# Altium integrated library arad.IntLib: 20 symbols
Pins are listed as number, name and electrical type; pins without a type are passive.

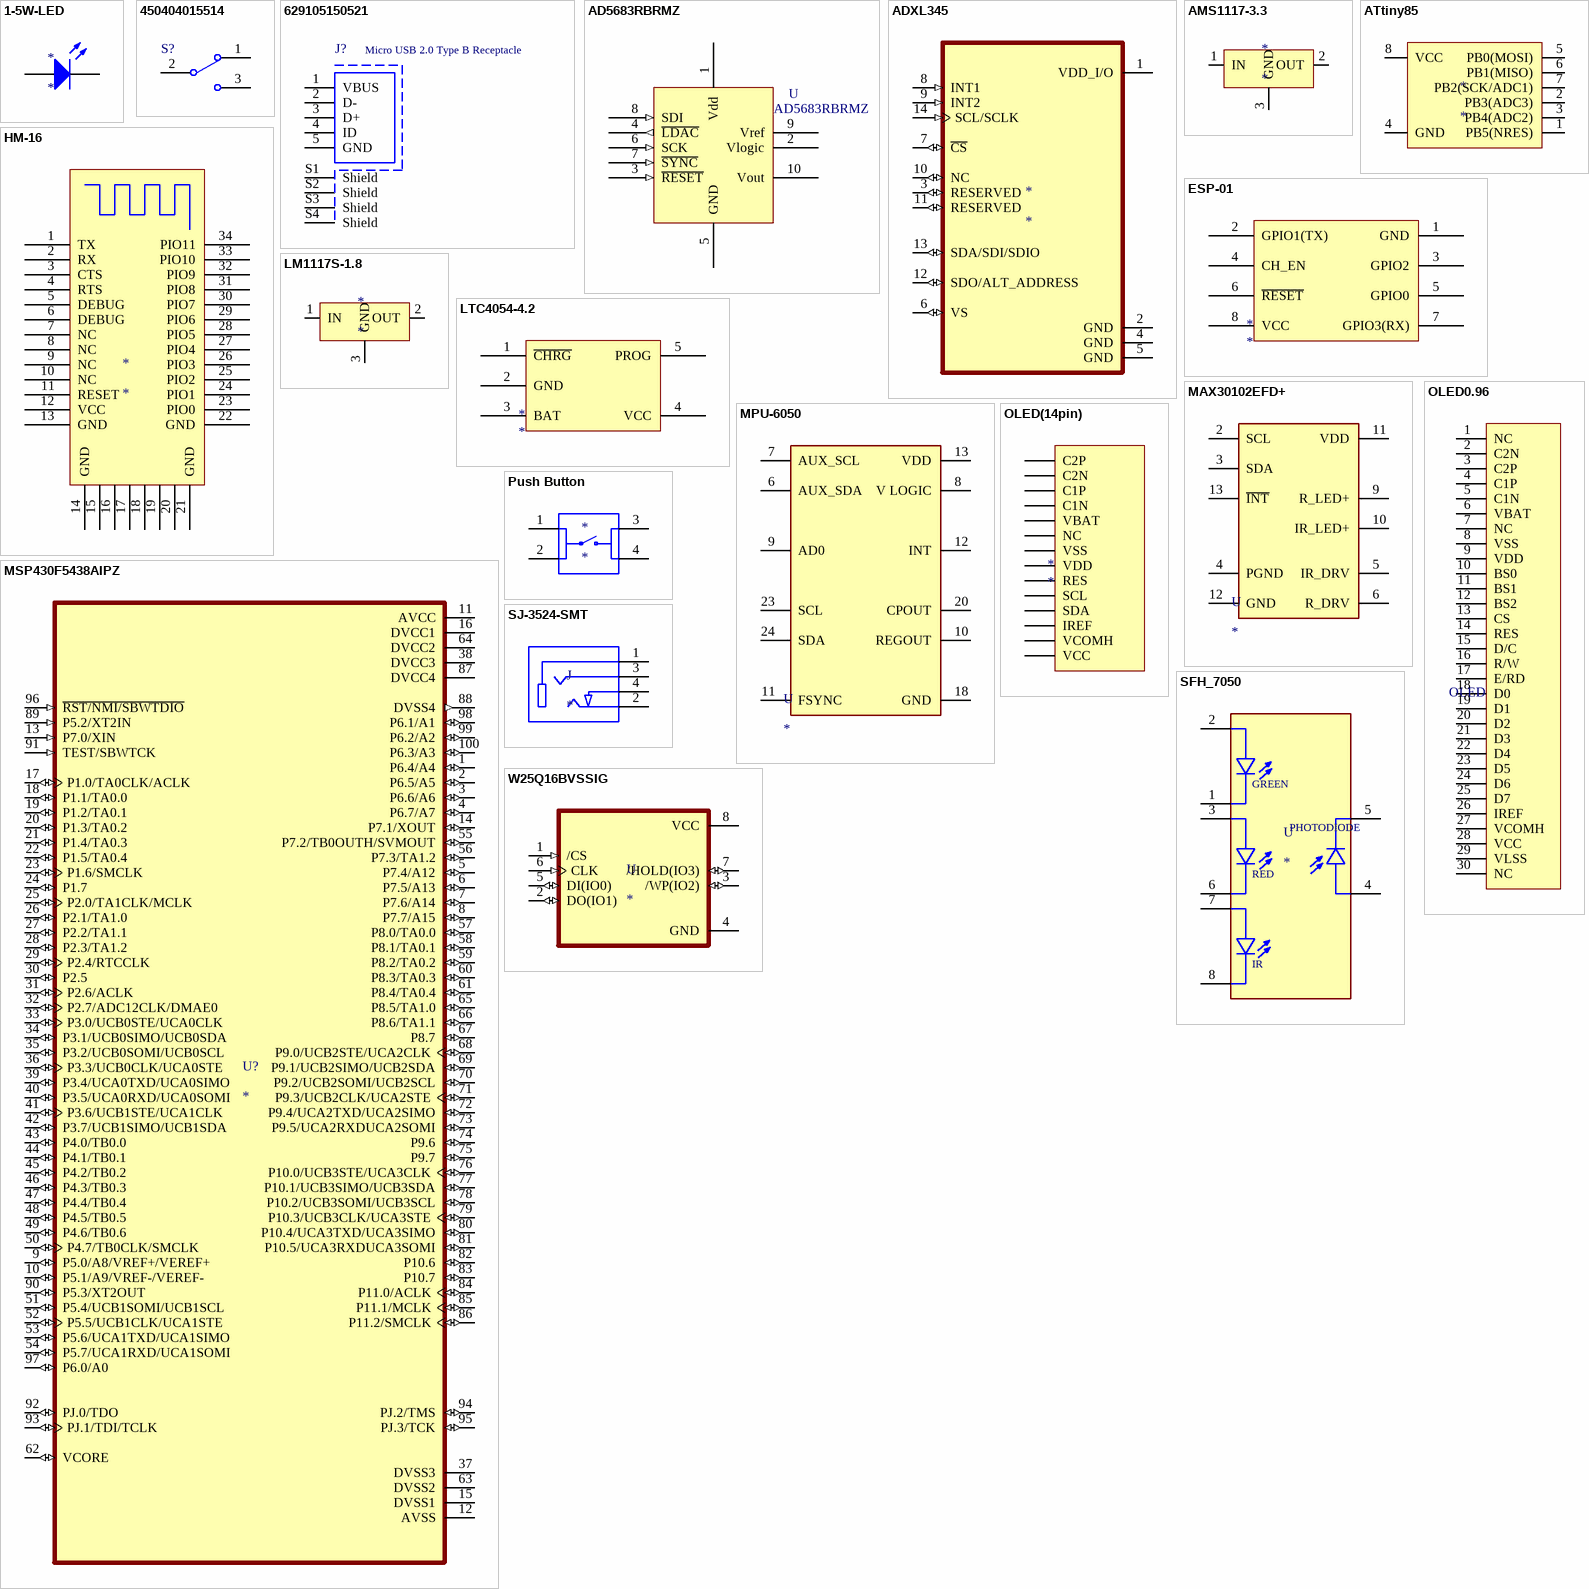
[diagram p0: symbols 1-5W-LED to W25Q16BVSSIG]

## 1-5W-LED
designator *
footprint Highpwr_SMT_LED
pins: 1 A, 2 K

## 450404015514
designator S?
WS-SLSU Mini SMT Slide Switch, Same Side Connection, Right Angled, SPDT; Part Number: 450404015514; Rated Current: 300mA; Rated Voltage: 5VDC; Switching Function: On-On; ComponentLink1Description: Manufacturer; ComponentLink1URL: http://www.we-online.de; ComponentLink2Description: Datasheet; ComponentLink2URL: https://katalog.we-online.com/em/datasheet/450404015514.pdf; Packaging: Tape and Reel; Publisher: Wurth Elektronik; Contact Material: Copper Alloy; Mounting Technology: SMT; Operating Temperature: -40 to +85degC; Contact Plating: Silver; Published Date: September 2019; Terminal Material: Copper Alloy; Size: 6.7x2.7mm; Circuit: SPDT; Terminal Plating: Silver
footprint 450404015514
pins: 1, 2 COM, 3

## 629105150521
designator J?, comment Micro USB 2.0 Type B Receptacle
Micro USB 2.0 Type B, Receptacle, Horizontal, SMT, with Pegs; Part Number: 629105150521; Rated Current: 3A; Pin Number: 5; Interface Type: Type B; Working Voltage: 30VAC; ComponentLink1Description: Manufacturer; ComponentLink1URL: http://www.we-online.de; ComponentLink2Description: Datasheet; ComponentLink2URL: https://katalog.we-online.com/em/datasheet/629105150521.pdf; Published Date: September 2019; Publisher: Wurth Elektronik; Gender: Receptacle; Type: Horizontal; Packaging: Tape and Reel; Operating Temperature: -40 to +85degC; Mounting Technology: SMT; Application: Micro USB 2.0
footprint 629105150521
pins: 1 VBUS, 2 D-, 3 D+, 4 ID, 5 GND, S1 Shield, S2 Shield, S3 Shield, S4 Shield

## AD5683RBRMZ
designator U
Tiny 16-/14-/12-Bit SPI nanoDAC+, with  ±2 (16-Bit) LSB INL and 2 ppm/°C Reference
footprint SOP50P490X110-10N (Footprint not found)
pins: 1 Vdd (power), 2 Vlogic (power), 3 ~{RESET} (in), 4 ~{LDAC} (out), 5 GND (power), 6 SCK (in), 7 ~{SYNC} (in), 8 SDI (in), 9 Vref (power), 10 Vout (power)
2 alternate drawings of the same symbol

## ADXL345
designator *
footprint ADXL345
pins: 1 VDD_I/O (power), 2 GND (power), 3 RESERVED (io), 4 GND (power), 5 GND (power), 6 VS (io), 7 ~{CS} (io), 8 INT1 (in), 9 INT2 (in), 10 NC (io), 11 RESERVED (io), 12 SDO/ALT_ADDRESS (io), 13 SDA/SDI/SDIO (io), 14 SCL/SCLK (in)

## AMS1117-3.3
designator *
footprint SOT223
pins: 1 IN, 2 OUT, 3 GND

## ATtiny85
designator *
pins: 1 PB5(NRES), 2 PB3(ADC3), 3 PB4(ADC2), 4 GND, 5 PB0(MOSI), 6 PB1(MISO), 7 PB2(SCK/ADC1), 8 VCC

## ESP-01
designator *
footprint ESP-01
pins: 1 GND, 2 GPIO1(TX), 3 GPIO2, 4 CH_EN, 5 GPIO0, 6 ~{RESET}, 7 GPIO3(RX), 8 VCC

## HM-16
designator *
footprint HM-16
pins: 1 TX, 2 RX, 3 CTS, 4 RTS, 5 DEBUG, 6 DEBUG, 7 NC, 8 NC, 9 NC, 10 NC, 11 RESET, 12 VCC, 13 GND, 14 GND, 15, 16, 17, 18, 19, 20, 21 GND, 22 GND, 23 PIO0, 24 PIO1, 25 PIO2, 26 PIO3, 27 PIO4, 28 PIO5, 29 PIO6, 30 PIO7, 31 PIO8, 32 PIO9, 33 PIO10, 34 PIO11

## LM1117S-1.8
designator *
footprint SOT223
pins: 1 IN, 2 OUT, 3 GND

## LTC4054-4.2
designator *
footprint S5 (SOT-23/SC-74A; 5 Leads; Body 3.1 x 3 mm, inc. leads (LxW max))
pins: 1 ~{CHRG}, 2 GND, 3 BAT, 4 VCC, 5 PROG

## MAX30102EFD+
designator U
Oximeter/Heart Rate Sensor IÂ²C Output; MF: Maxim Integrated; MP: MAX30102EFD+; Price: None; Value: *; Package: OLGA-14 Maxim; Availability: Unavailable; SnapEDA_Link: https://www.snapeda.com/parts/MAX30102EFD%2B/Maxim%20Integrated/view-part/397548/?ref=snap
footprint PSON80P330X560X165-14N
pins: 2 SCL, 3 SDA, 4 PGND, 5 IR_DRV, 6 R_DRV, 9 R_LED+, 10 IR_LED+, 11 VDD, 12 GND, 13 ~{INT}

## MPU-6050
designator U
Accelerometer, Gyroscope, 6 Axis Sensor IÂ²C Output; MF: TDK InvenSense; Price: None; Package: VFQFN-24 TDK InvenSense; MP: MPU-6050; Value: *; Availability: Unavailable; SnapEDA_Link: https://www.snapeda.com/parts/MPU-6050/TDK%20InvenSense/view-part/4503180/?ref=snap
footprint QFN50P400X400X95-24N
pins: 6 AUX_SDA, 7 AUX_SCL, 8 V LOGIC, 9 AD0, 10 REGOUT, 11 FSYNC, 12 INT, 13 VDD (power), 18 GND (power), 20 CPOUT, 23 SCL, 24 SDA

## MSP430F5438AIPZ
designator U?
18 MHz MCU with 256KB Flash, 16KB SRAM, 12-bit ADC, DMA, UART/SPI/I2C, Timer, HW Multiplier 100-LQFP -40 to 85; MP: MSP430F5438AIPZ; MF: Texas Instruments; SnapEDA_Link: https://www.snapeda.com/parts/MSP430F5438AIPZ/Texas%20Instruments/view-part/374696/?ref=snap; Availability: Unavailable; Purchase-URL: https://pricing.snapeda.com/search/part/MSP430F5438AIPZ/?ref=eda; Check_prices: https://www.snapeda.com/parts/MSP430F5438AIPZ/Texas%20Instruments/view-part/374696/?ref=eda; Price: None; Value: *; Package: LQFP-100 Texas Instruments
footprint QFP50P1600X1600X160-100N
pins: 1 P6.4/A4 (io), 2 P6.5/A5 (io), 3 P6.6/A6 (io), 4 P6.7/A7 (io), 5 P7.4/A12 (io), 6 P7.5/A13 (io), 7 P7.6/A14 (io), 8 P7.7/A15 (io), 9 P5.0/A8/VREF+/VEREF+ (io), 10 P5.1/A9/VREF-/VEREF- (io), 11 AVCC (power), 12 AVSS (power), 13 P7.0/XIN (in), 14 P7.1/XOUT (io), 15 DVSS1 (power), 16 DVCC1 (power), 17 P1.0/TA0CLK/ACLK (io), 18 P1.1/TA0.0 (io), 19 P1.2/TA0.1 (io), 20 P1.3/TA0.2 (io), 21 P1.4/TA0.3 (io), 22 P1.5/TA0.4 (io), 23 P1.6/SMCLK (io), 24 P1.7 (io), 25 P2.0/TA1CLK/MCLK (io), 26 P2.1/TA1.0 (io), 27 P2.2/TA1.1 (io), 28 P2.3/TA1.2 (io), 29 P2.4/RTCCLK (io), 30 P2.5 (io), 31 P2.6/ACLK (io), 32 P2.7/ADC12CLK/DMAE0 (io), 33 P3.0/UCB0STE/UCA0CLK (io), 34 P3.1/UCB0SIMO/UCB0SDA (io), 35 P3.2/UCB0SOMI/UCB0SCL (io), 36 P3.3/UCB0CLK/UCA0STE (io), 37 DVSS3 (power), 38 DVCC3 (power), 39 P3.4/UCA0TXD/UCA0SIMO (io), 40 P3.5/UCA0RXD/UCA0SOMI (io), 41 P3.6/UCB1STE/UCA1CLK (io), 42 P3.7/UCB1SIMO/UCB1SDA (io), 43 P4.0/TB0.0 (io), 44 P4.1/TB0.1 (io), 45 P4.2/TB0.2 (io), 46 P4.3/TB0.3 (io), 47 P4.4/TB0.4 (io), 48 P4.5/TB0.5 (io), 49 P4.6/TB0.6 (io), 50 P4.7/TB0CLK/SMCLK (io), 51 P5.4/UCB1SOMI/UCB1SCL (io), 52 P5.5/UCB1CLK/UCA1STE (io), 53 P5.6/UCA1TXD/UCA1SIMO (io), 54 P5.7/UCA1RXD/UCA1SOMI (io), 55 P7.2/TB0OUTH/SVMOUT (io), 56 P7.3/TA1.2 (io), 57 P8.0/TA0.0 (io), 58 P8.1/TA0.1 (io), 59 P8.2/TA0.2 (io), 60 P8.3/TA0.3 (io), 61 P8.4/TA0.4 (io), 62 VCORE (io), 63 DVSS2 (power), 64 DVCC2 (power), 65 P8.5/TA1.0 (io), 66 P8.6/TA1.1 (io), 67 P8.7 (io), 68 P9.0/UCB2STE/UCA2CLK (io), 69 P9.1/UCB2SIMO/UCB2SDA (io), 70 P9.2/UCB2SOMI/UCB2SCL (io), 71 P9.3/UCB2CLK/UCA2STE (io), 72 P9.4/UCA2TXD/UCA2SIMO (io), 73 P9.5/UCA2RXDUCA2SOMI (io), 74 P9.6 (io), 75 P9.7 (io), 76 P10.0/UCB3STE/UCA3CLK (io), 77 P10.1/UCB3SIMO/UCB3SDA (io), 78 P10.2/UCB3SOMI/UCB3SCL (io), 79 P10.3/UCB3CLK/UCA3STE (io), 80 P10.4/UCA3TXD/UCA3SIMO (io), 81 P10.5/UCA3RXDUCA3SOMI (io), 82 P10.6 (io), 83 P10.7 (io), 84 P11.0/ACLK (io), 85 P11.1/MCLK (io), 86 P11.2/SMCLK (io), 87 DVCC4 (power), 88 DVSS4 (out), 89 P5.2/XT2IN (in), 90 P5.3/XT2OUT (io), 91 TEST/SBWTCK (in), 92 PJ.0/TDO (io), 93 PJ.1/TDI/TCLK (io), 94 PJ.2/TMS (io), 95 PJ.3/TCK (io), 96 ~{RST/NMI/SBWTDIO} (in), 97 P6.0/A0 (io), 98 P6.1/A1 (io), 99 P6.2/A2 (io), 100 P6.3/A3 (io)

## OLED0.96
designator OLED, comment OLED  (value not drawn)
footprint oled0.96
footprint OLED0.96_NO3D
pins: 1 NC, 2 C2N, 3 C2P, 4 C1P, 5 C1N, 6 VBAT, 7 NC, 8 VSS, 9 VDD, 10 BS0, 11 BS1, 12 BS2, 13 CS, 14 RES, 15 D/C, 16 R/W, 17 E/RD, 18 D0, 19 D1, 20 D2, 21 D3, 22 D4, 23 D5, 24 D6, 25 D7, 26 IREF, 27 VCOMH, 28 VCC, 29 VLSS, 30 NC

## OLED(14pin)
designator *
footprint oled0.49
footprint oled0.91
footprint oled0.91_no3d
pins: 1 C2P, 2 C2N, 3 C1P, 4 C1N, 5 VBAT, 6 NC, 7 VSS, 8 VDD, 9 RES, 10 SCL, 11 SDA, 12 IREF, 13 VCOMH, 14 VCC

## Push Button
designator *
footprint PUSH_BTN
footprint PUSH_BTN_LONG
pins: 1, 2, 3, 4

## SFH_7050
designator U
MF: OSRAM Opto; Digi-Key_Part_Number: 475-3346-1-ND; Digi-Key_Purchase_URL: https://www.digikey.com/product-detail/en/osram-opto-semiconductors-inc/SFH-7050/475-3346-1-ND/7645273?utm_source=snapeda&utm_medium=aggregator&utm_campaign=symbol; Package: None; MP: SFH 7050; Value: *; SnapEDA_Link: https://www.snapeda.com/parts/SFH%207050/OSRAM%20Opto%20Semiconductors%20Inc./view-part/227176/?ref=snap
footprint XDCR_SFH_7050
pins: 1 GC, 2 GA, 3 RA, 4 PA, 5 PC, 6 RC, 7 IA, 8 IC
text: GREEN; PHOTODIODE; RED; IR

## SJ-3524-SMT
designator J
3.5 mm, Stereo, Right Angle, Surface Mount _SMT_, Audio Jack Connector; MP: SJ-3524-SMT-TR; MF: CUI Devices; Price: None; Package: None; Value: *; Availability: Unavailable; CUI_purchase_URL: https://www.cuidevices.com/product/interconnect/connectors/audio-connectors/jacks/sj-352x-smt-series?utm_source=snapeda.com&utm_medium=referral&utm_campaign=snapedaBOM; SnapEDA_Link: https://www.snapeda.com/parts/SJ-3524-SMT-TR/CUI%20Devices/view-part/328268/?ref=snap
footprint CUI_SJ-3524-SMT
pins: 1, 2, 3, 4

## W25Q16BVSSIG
designator U
FLASH - NOR Memory IC 16Mb _2M x 8_ SPI 104MHz 8-SOIC; MP: W25Q16BVSSIG; MF: Winbond; Availability: Unavailable; SnapEDA_Link: https://www.snapeda.com/parts/W25Q16BVSSIG/Winbond%20Electronics/view-part/512685/?ref=snap; Value: *; Price: None; Package: SOIC-8 Winbond
footprint SOIC127P790X216-8N
pins: 1 /CS (in), 2 DO(IO1) (io), 3 /WP(IO2) (io), 4 GND (power), 5 DI(IO0) (io), 6 CLK (in), 7 /HOLD(IO3) (io), 8 VCC (power)